# Altium footprint library KMR221GLFS.PcbLib: 2 footprints
Each footprint in its own frame and in the unit in brackets; x right, y up, seen from the top. Pads: shape width x height; smd on the part's side, far side on the other; paste and mask are expansions set on the pad; w line width, h text height; cw(c..) or ccw(c..) is an arc to the next point about the centre after c.
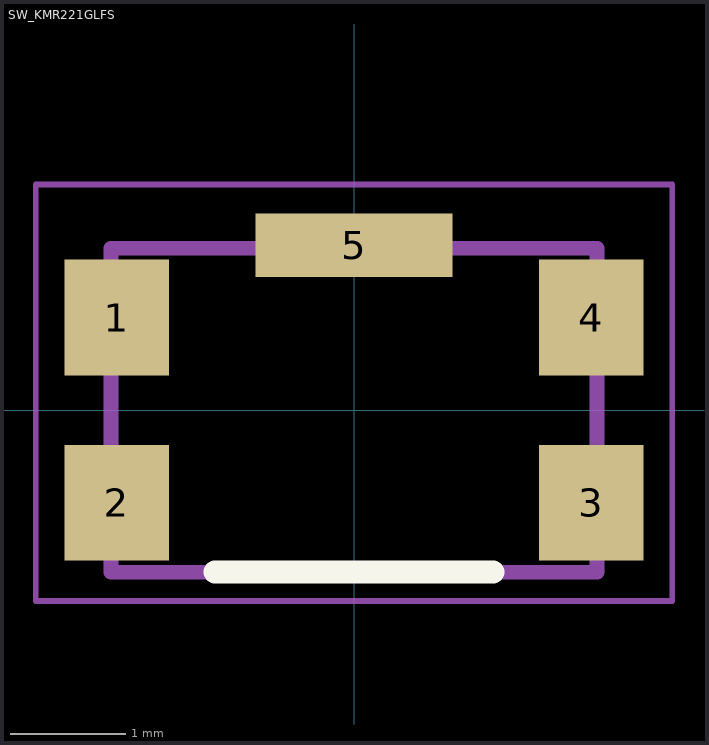
[diagram p0: the footprints below, top view; thin cyan lines are the x and y axes]

## PCBComponent_1 [mm]

## SW_KMR221GLFS [mm]
pads (5):
  rect 0.9x1 smd: 1(-2.05,0.8) 2(-2.05,-0.8) 3(2.05,-0.8) 4(2.05,0.8)
  rect 1.7x0.55 smd: 5(0,1.425)
Top Overlay:
  lines w0.2: -1.2,-1.4 1.2,-1.4
Mechanical 13:
  lines w0.127: -2.1,-1.4 -2.1,1.4 ; -2.1,-1.4 2.1,-1.4 ; -2.1,-1.4 -2.1,1.4 ; -2.1,-1.4 2.1,-1.4 ; -2.1,1.4 2.1,1.4 ; -2.1,1.4 2.1,1.4 ; 2.1,-1.4 2.1,1.4 ; 2.1,-1.4 2.1,1.4
Mechanical 15:
  lines w0.05: -2.75,-1.65 -2.75,1.95 2.75,1.95 2.75,-1.65 -2.75,-1.65